# Altium footprint library RLB0913-4R7K.PcbLib: 1 footprints
Each footprint in its own frame and in the unit in brackets; x right, y up, seen from the top. Pads: shape width x height; smd on the part's side, far side on the other; paste and mask are expansions set on the pad; w line width, h text height; cw(c..) or ccw(c..) is an arc to the next point about the centre after c.
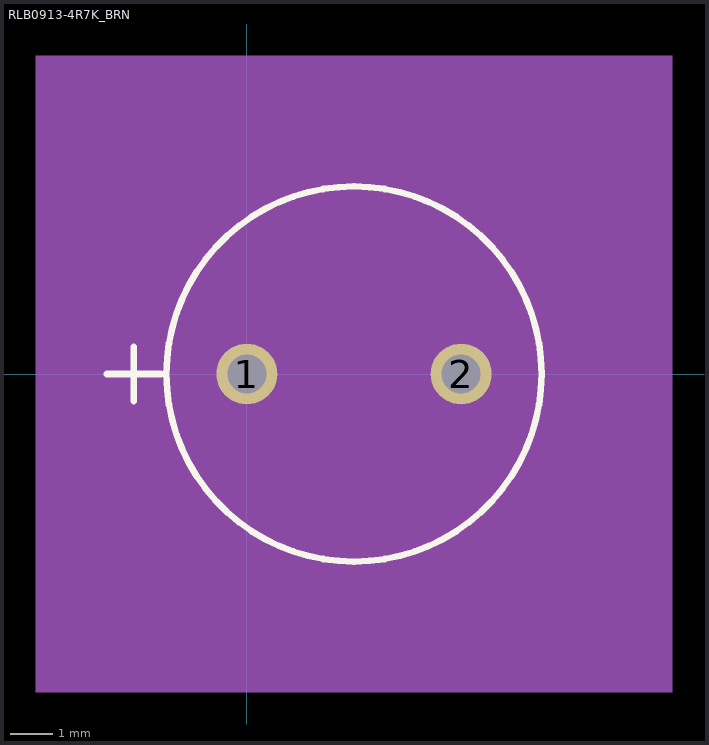
[diagram p0: the footprint, top view; thin cyan lines are the x and y axes]

## RLB0913-4R7K_BRN [mil]
pads (2):
  round 56 hole 36 mask+0: 1(0,0) 2(196.85,0)
Top Overlay:
  circle w6: c98.43,0 r172.32
  lines w6: -128.9,0 -78.9,0 ; -103.9,-25 -103.9,25
Mechanical 5:
  region: 390.75,-292.32 -193.9,-292.32 -193.9,292.32 390.75,292.32
Mechanical 13:
  circle w0: c98.43,0 r167.32
  lines w1: -128.9,0 -78.9,0 ; -103.9,-25 -103.9,25
Mechanical 15:
  region: -78.9,73.02 25.41,177.32 171.44,177.32 275.75,73.02 275.75,-73.02 171.44,-177.32 25.41,-177.32 -78.9,-73.02
  lines w1: -78.9,-73.02 25.41,-177.32 171.44,-177.32 275.75,-73.02 275.75,73.02 171.44,177.32 25.41,177.32 -78.9,73.02 -78.9,-73.02
3D body "RLB0913-4R7K_BRN.step": height 492.76, standoff -177.99, extent -68.9,-167.2 266.79,167.2